# EAGLE library part 61200820621 (library Wurth_Elektronik_Electromechanic_Wire_to_Board_Connectors_rev16a)
WR-BHD 2.54mm Male SMT Box Header High Temperature, 8 Pins=>Code : Con_WTB_BHD_2.54_Male_SMT_61200820621 <http://katalog.we-online.de/media/thumbs2/eican/thb_Con_WTB_BHD_2.54_Male_SMT_6120xx20621_pf2.jpg> Details see: http://katalog.we-online.de/en/em/612_0xx_206_21 Created 2014-06-05, Karrer Zheng 2014 (C) Würth Elektronik
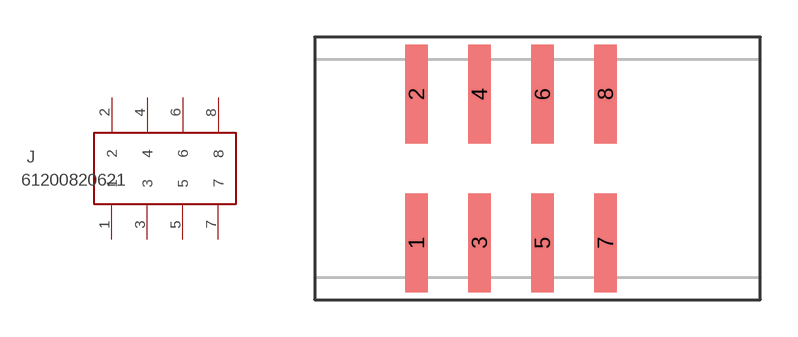
[diagram p115: symbol with the pads of 61200820621; footprint 61200820621]

Designator prefix J

## 61200820621  [61200820621]
1  1  pas
2  2  pas
3  3  pas
4  4  pas
5  5  pas
6  6  pas
7  7  pas
8  8  pas

## Footprint 61200820621 (pad centres in mm)
WRBHD-2.54mm Male SMT Box Header High Temperature,8 pins
smd 0.9 x 4: 1 -3.81,-3; 2 -3.81,3; 3 -1.27,-3; 4 -1.27,3; 5 1.27,-3; 6 1.27,3; 7 3.81,-3; 8 3.81,3